# EAGLE library part GS2011M (library jkf)
Gainspan 2011M WiFi Module
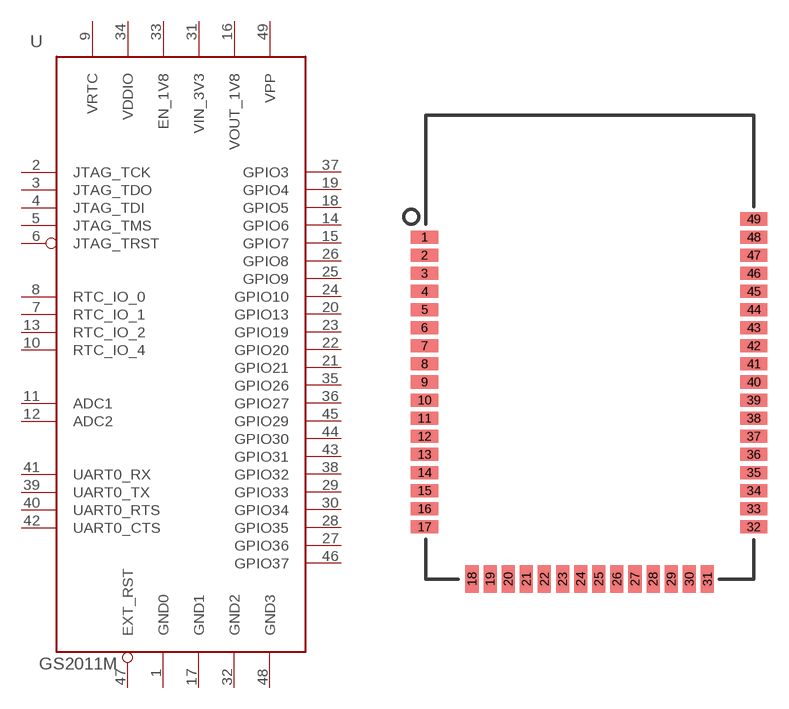
[diagram p9: symbol with the pads of GS2011M; footprint GS2011M]

Designator prefix -

## GS2011M  [GS2011M]
1  GND0  pwr
2  JTAG_TCK  in
3  JTAG_TDO  out
4  JTAG_TDI  in
5  JTAG_TMS  in
6  JTAG_TRST  in
7  RTC_IO_1
8  RTC_IO_0
9  VRTC  pwr
10  RTC_IO_4
11  ADC1  pas
12  ADC2  pas
13  RTC_IO_2
14  GPIO6
15  GPIO7
16  VOUT_1V8  pwr
17  GND1  pwr
18  GPIO5
19  GPIO4
20  GPIO13
21  GPIO21
22  GPIO20
23  GPIO19
24  GPIO10
25  GPIO9
26  GPIO8
27  GPIO36
28  GPIO35
29  GPIO33
30  GPIO34
31  VIN_3V3  pwr
32  GND2  pwr
33  EN_1V8  pwr
34  VDDIO  pwr
35  GPIO26
36  GPIO27
37  GPIO3
38  GPIO32
39  UART0_TX
40  UART0_RTS
41  UART0_RX
42  UART0_CTS
43  GPIO31
44  GPIO30
45  GPIO29
46  GPIO37
47  EXT_RST
48  GND3  pwr
49  VPP  pas

## Footprint GS2011M (pad centres in mm)
smd 1.905 x 0.914: 1 -11.76,7.468; 2 -11.76,6.198; 3 -11.76,4.928; 4 -11.76,3.658; 5 -11.76,2.388; 6 -11.76,1.118; 7 -11.76,-0.152; 8 -11.76,-1.422; 9 -11.76,-2.692; 10 -11.76,-3.962; 11 -11.76,-5.232; 12 -11.76,-6.502; 13 -11.76,-7.772; 14 -11.76,-9.042; 15 -11.76,-10.312; 16 -11.76,-11.582; 17 -11.76,-12.852; 32 11.328,-12.852; 33 11.328,-11.582; 34 11.328,-10.312; 35 11.328,-9.042; 36 11.328,-7.772; 37 11.328,-6.502; 38 11.328,-5.232; 39 11.328,-3.962; 40 11.328,-2.692; 41 11.328,-1.422; 42 11.328,-0.152; 43 11.328,1.118; 44 11.328,2.388; 45 11.328,3.658; 46 11.328,4.928; 47 11.328,6.198; 48 11.328,7.468; 49 11.328,8.738
smd 0.914 x 1.905: 18 -8.433,-16.51; 19 -7.163,-16.51; 20 -5.893,-16.51; 21 -4.623,-16.51; 22 -3.353,-16.51; 23 -2.083,-16.51; 24 -0.813,-16.51; 25 0.457,-16.51; 26 1.727,-16.51; 27 2.997,-16.51; 28 4.267,-16.51; 29 5.537,-16.51; 30 6.807,-16.51; 31 8.077,-16.51